# Altium footprint library Connectors_2mm.PcbLib: 81 footprints (part 3 of 6)
Each footprint in its own frame and in the unit in brackets; x right, y up, seen from the top. Pads: shape width x height; smd on the part's side, far side on the other; paste and mask are expansions set on the pad; w line width, h text height; cw(c..) or ccw(c..) is an arc to the next point about the centre after c.
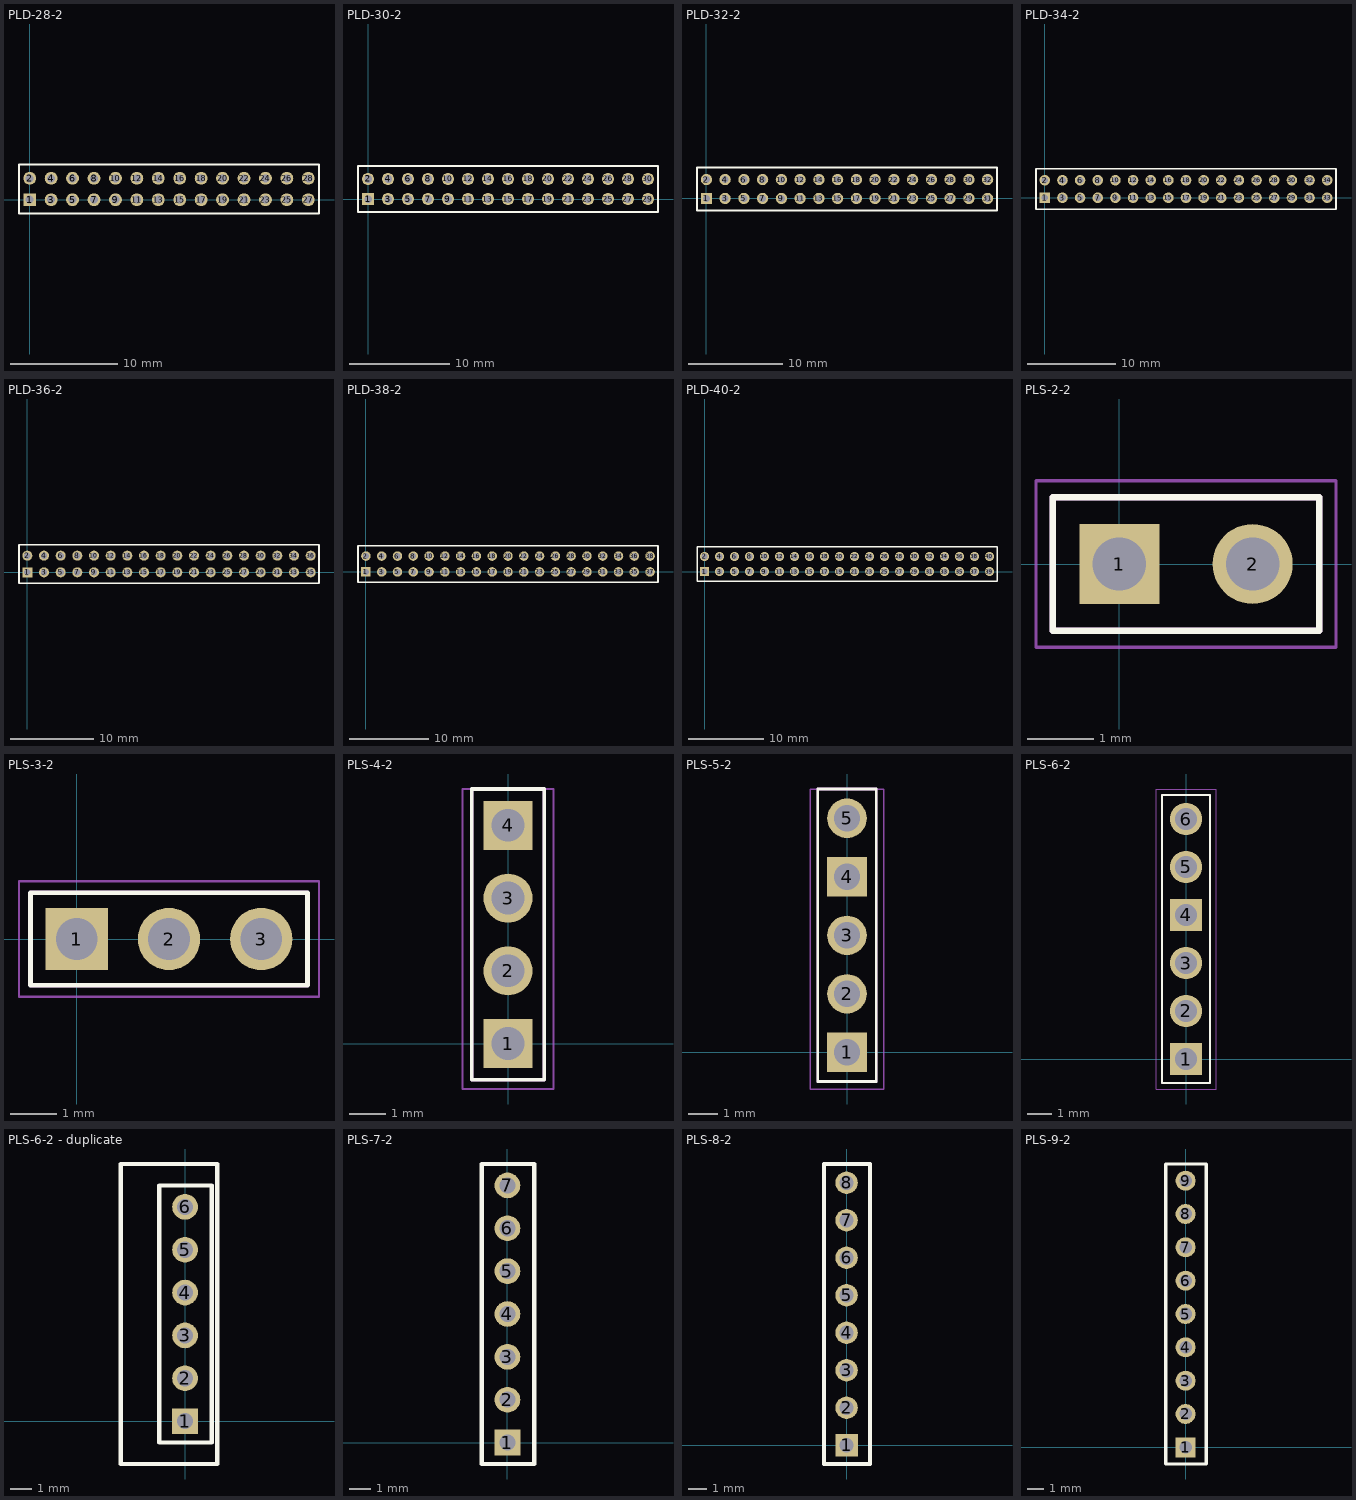
[diagram p2: the footprints below, top view; thin cyan lines are the x and y axes]

## PLD-28-2 [mm] "Connector; Header; 14x2 Position"
height 6
pads (28):
  rect 1.2x1.2 hole 0.75: 1(0,0)
  round 1.2 hole 0.75: 2(0,2) 3(2,0) 4(2,2) 5(4,0) 6(4,2) 7(6,0) 8(6,2) 9(8,0) 10(8,2) 11(10,0) 12(10,2) 13(12,0) 14(12,2) 15(14,0) 16(14,2) 17(16,0) 18(16,2) 19(18,0) 20(18,2) 21(20,0) 22(20,2) 23(22,0) 24(22,2) 25(24,0) 26(24,2) 27(26,0) 28(26,2)
Top Overlay:
  lines w0.2: -1,-1.3 27,-1.3 27,3.3 -1,3.3 -1,-1.3
3D body "pld-2mm.stp": height 5.5, standoff -2.5, extent -1,-1.3 1,3.3
3D body "pld-2mm.stp": height 5.5, standoff -2.5, extent 1,-1.3 3,3.3
3D body "pld-2mm.stp": height 5.5, standoff -2.5, extent 3,-1.3 5,3.3
3D body "pld-2mm.stp": height 5.5, standoff -2.5, extent 5,-1.3 7,3.3
3D body "pld-2mm.stp": height 5.5, standoff -2.5, extent 7,-1.3 9,3.3
3D body "pld-2mm.stp": height 5.5, standoff -2.5, extent 9,-1.3 11,3.3
3D body "pld-2mm.stp": height 5.5, standoff -2.5, extent 11,-1.3 13,3.3
3D body "pld-2mm.stp": height 5.5, standoff -2.5, extent 13,-1.3 15,3.3
3D body "pld-2mm.stp": height 5.5, standoff -2.5, extent 15,-1.3 17,3.3
3D body "pld-2mm.stp": height 5.5, standoff -2.5, extent 17,-1.3 19,3.3
3D body "pld-2mm.stp": height 5.5, standoff -2.5, extent 19,-1.3 21,3.3
3D body "pld-2mm.stp": height 5.5, standoff -2.5, extent 21,-1.3 23,3.3
3D body "pld-2mm.stp": height 5.5, standoff -2.5, extent 23,-1.3 25,3.3
3D body "pld-2mm.stp": height 5.5, standoff -2.5, extent 25,-1.3 27,3.3

## PLD-30-2 [mm] "Connector; Header; 15x2 Position"
height 6
pads (30):
  rect 1.2x1.2 hole 0.75: 1(0,0)
  round 1.2 hole 0.75: 2(0,2) 3(2,0) 4(2,2) 5(4,0) 6(4,2) 7(6,0) 8(6,2) 9(8,0) 10(8,2) 11(10,0) 12(10,2) 13(12,0) 14(12,2) 15(14,0) 16(14,2) 17(16,0) 18(16,2) 19(18,0) 20(18,2) 21(20,0) 22(20,2) 23(22,0) 24(22,2) 25(24,0) 26(24,2) 27(26,0) 28(26,2) 29(28,0) 30(28,2)
Top Overlay:
  lines w0.2: -1,-1.3 29,-1.3 29,3.3 -1,3.3 -1,-1.3
3D body "pld-2mm.stp": height 5.5, standoff -2.5, extent -1,-1.3 1,3.3
3D body "pld-2mm.stp": height 5.5, standoff -2.5, extent 1,-1.3 3,3.3
3D body "pld-2mm.stp": height 5.5, standoff -2.5, extent 3,-1.3 5,3.3
3D body "pld-2mm.stp": height 5.5, standoff -2.5, extent 5,-1.3 7,3.3
3D body "pld-2mm.stp": height 5.5, standoff -2.5, extent 7,-1.3 9,3.3
3D body "pld-2mm.stp": height 5.5, standoff -2.5, extent 9,-1.3 11,3.3
3D body "pld-2mm.stp": height 5.5, standoff -2.5, extent 11,-1.3 13,3.3
3D body "pld-2mm.stp": height 5.5, standoff -2.5, extent 13,-1.3 15,3.3
3D body "pld-2mm.stp": height 5.5, standoff -2.5, extent 15,-1.3 17,3.3
3D body "pld-2mm.stp": height 5.5, standoff -2.5, extent 17,-1.3 19,3.3
3D body "pld-2mm.stp": height 5.5, standoff -2.5, extent 19,-1.3 21,3.3
3D body "pld-2mm.stp": height 5.5, standoff -2.5, extent 21,-1.3 23,3.3
3D body "pld-2mm.stp": height 5.5, standoff -2.5, extent 23,-1.3 25,3.3
3D body "pld-2mm.stp": height 5.5, standoff -2.5, extent 25,-1.3 27,3.3
3D body "pld-2mm.stp": height 5.5, standoff -2.5, extent 27,-1.3 29,3.3

## PLD-32-2 [mm] "Connector; Header; 16x2 Position"
height 6
pads (32):
  rect 1.2x1.2 hole 0.75: 1(0,0)
  round 1.2 hole 0.75: 2(0,2) 3(2,0) 4(2,2) 5(4,0) 6(4,2) 7(6,0) 8(6,2) 9(8,0) 10(8,2) 11(10,0) 12(10,2) 13(12,0) 14(12,2) 15(14,0) 16(14,2) 17(16,0) 18(16,2) 19(18,0) 20(18,2) 21(20,0) 22(20,2) 23(22,0) 24(22,2) 25(24,0) 26(24,2) 27(26,0) 28(26,2) 29(28,0) 30(28,2) 31(30,0) 32(30,2)
Top Overlay:
  lines w0.2: -1,-1.3 31,-1.3 31,3.3 -1,3.3 -1,-1.3
3D body "pld-2mm.stp": height 5.5, standoff -2.5, extent -1,-1.3 1,3.3
3D body "pld-2mm.stp": height 5.5, standoff -2.5, extent 1,-1.3 3,3.3
3D body "pld-2mm.stp": height 5.5, standoff -2.5, extent 3,-1.3 5,3.3
3D body "pld-2mm.stp": height 5.5, standoff -2.5, extent 5,-1.3 7,3.3
3D body "pld-2mm.stp": height 5.5, standoff -2.5, extent 7,-1.3 9,3.3
3D body "pld-2mm.stp": height 5.5, standoff -2.5, extent 9,-1.3 11,3.3
3D body "pld-2mm.stp": height 5.5, standoff -2.5, extent 11,-1.3 13,3.3
3D body "pld-2mm.stp": height 5.5, standoff -2.5, extent 13,-1.3 15,3.3
3D body "pld-2mm.stp": height 5.5, standoff -2.5, extent 15,-1.3 17,3.3
3D body "pld-2mm.stp": height 5.5, standoff -2.5, extent 17,-1.3 19,3.3
3D body "pld-2mm.stp": height 5.5, standoff -2.5, extent 19,-1.3 21,3.3
3D body "pld-2mm.stp": height 5.5, standoff -2.5, extent 21,-1.3 23,3.3
3D body "pld-2mm.stp": height 5.5, standoff -2.5, extent 23,-1.3 25,3.3
3D body "pld-2mm.stp": height 5.5, standoff -2.5, extent 25,-1.3 27,3.3
3D body "pld-2mm.stp": height 5.5, standoff -2.5, extent 27,-1.3 29,3.3
3D body "pld-2mm.stp": height 5.5, standoff -2.5, extent 29,-1.3 31,3.3

## PLD-34-2 [mm] "Connector; Header; 17x2 Position"
height 6
pads (34):
  rect 1.2x1.2 hole 0.75: 1(0,0)
  round 1.2 hole 0.75: 2(0,2) 3(2,0) 4(2,2) 5(4,0) 6(4,2) 7(6,0) 8(6,2) 9(8,0) 10(8,2) 11(10,0) 12(10,2) 13(12,0) 14(12,2) 15(14,0) 16(14,2) 17(16,0) 18(16,2) 19(18,0) 20(18,2) 21(20,0) 22(20,2) 23(22,0) 24(22,2) 25(24,0) 26(24,2) 27(26,0) 28(26,2) 29(28,0) 30(28,2) 31(30,0) 32(30,2) 33(32,0) 34(32,2)
Top Overlay:
  lines w0.2: -1,-1.3 33,-1.3 33,3.3 -1,3.3 -1,-1.3
3D body "pld-2mm.stp": height 5.5, standoff -2.5, extent -1,-1.3 1,3.3
3D body "pld-2mm.stp": height 5.5, standoff -2.5, extent 1,-1.3 3,3.3
3D body "pld-2mm.stp": height 5.5, standoff -2.5, extent 3,-1.3 5,3.3
3D body "pld-2mm.stp": height 5.5, standoff -2.5, extent 5,-1.3 7,3.3
3D body "pld-2mm.stp": height 5.5, standoff -2.5, extent 7,-1.3 9,3.3
3D body "pld-2mm.stp": height 5.5, standoff -2.5, extent 9,-1.3 11,3.3
3D body "pld-2mm.stp": height 5.5, standoff -2.5, extent 11,-1.3 13,3.3
3D body "pld-2mm.stp": height 5.5, standoff -2.5, extent 13,-1.3 15,3.3
3D body "pld-2mm.stp": height 5.5, standoff -2.5, extent 15,-1.3 17,3.3
3D body "pld-2mm.stp": height 5.5, standoff -2.5, extent 17,-1.3 19,3.3
3D body "pld-2mm.stp": height 5.5, standoff -2.5, extent 19,-1.3 21,3.3
3D body "pld-2mm.stp": height 5.5, standoff -2.5, extent 21,-1.3 23,3.3
3D body "pld-2mm.stp": height 5.5, standoff -2.5, extent 23,-1.3 25,3.3
3D body "pld-2mm.stp": height 5.5, standoff -2.5, extent 25,-1.3 27,3.3
3D body "pld-2mm.stp": height 5.5, standoff -2.5, extent 27,-1.3 29,3.3
3D body "pld-2mm.stp": height 5.5, standoff -2.5, extent 29,-1.3 31,3.3
3D body "pld-2mm.stp": height 5.5, standoff -2.5, extent 31,-1.3 33,3.3

## PLD-36-2 [mm] "Connector; Header; 18x2 Position"
height 6
pads (36):
  rect 1.2x1.2 hole 0.75: 1(0,0)
  round 1.2 hole 0.75: 2(0,2) 3(2,0) 4(2,2) 5(4,0) 6(4,2) 7(6,0) 8(6,2) 9(8,0) 10(8,2) 11(10,0) 12(10,2) 13(12,0) 14(12,2) 15(14,0) 16(14,2) 17(16,0) 18(16,2) 19(18,0) 20(18,2) 21(20,0) 22(20,2) 23(22,0) 24(22,2) 25(24,0) 26(24,2) 27(26,0) 28(26,2) 29(28,0) 30(28,2) 31(30,0) 32(30,2) 33(32,0) 34(32,2) 35(34,0) 36(34,2)
Top Overlay:
  lines w0.2: -1,-1.3 35,-1.3 35,3.3 -1,3.3 -1,-1.3
3D body "pld-2mm.stp": height 5.5, standoff -2.5, extent -1,-1.3 1,3.3
3D body "pld-2mm.stp": height 5.5, standoff -2.5, extent 1,-1.3 3,3.3
3D body "pld-2mm.stp": height 5.5, standoff -2.5, extent 3,-1.3 5,3.3
3D body "pld-2mm.stp": height 5.5, standoff -2.5, extent 5,-1.3 7,3.3
3D body "pld-2mm.stp": height 5.5, standoff -2.5, extent 7,-1.3 9,3.3
3D body "pld-2mm.stp": height 5.5, standoff -2.5, extent 9,-1.3 11,3.3
3D body "pld-2mm.stp": height 5.5, standoff -2.5, extent 11,-1.3 13,3.3
3D body "pld-2mm.stp": height 5.5, standoff -2.5, extent 13,-1.3 15,3.3
3D body "pld-2mm.stp": height 5.5, standoff -2.5, extent 15,-1.3 17,3.3
3D body "pld-2mm.stp": height 5.5, standoff -2.5, extent 17,-1.3 19,3.3
3D body "pld-2mm.stp": height 5.5, standoff -2.5, extent 19,-1.3 21,3.3
3D body "pld-2mm.stp": height 5.5, standoff -2.5, extent 21,-1.3 23,3.3
3D body "pld-2mm.stp": height 5.5, standoff -2.5, extent 23,-1.3 25,3.3
3D body "pld-2mm.stp": height 5.5, standoff -2.5, extent 25,-1.3 27,3.3
3D body "pld-2mm.stp": height 5.5, standoff -2.5, extent 27,-1.3 29,3.3
3D body "pld-2mm.stp": height 5.5, standoff -2.5, extent 29,-1.3 31,3.3
3D body "pld-2mm.stp": height 5.5, standoff -2.5, extent 31,-1.3 33,3.3
3D body "pld-2mm.stp": height 5.5, standoff -2.5, extent 33,-1.3 35,3.3

## PLD-38-2 [mm] "Connector; Header; 19x2 Position"
height 6
pads (38):
  rect 1.2x1.2 hole 0.75: 1(0,0)
  round 1.2 hole 0.75: 2(0,2) 3(2,0) 4(2,2) 5(4,0) 6(4,2) 7(6,0) 8(6,2) 9(8,0) 10(8,2) 11(10,0) 12(10,2) 13(12,0) 14(12,2) 15(14,0) 16(14,2) 17(16,0) 18(16,2) 19(18,0) 20(18,2) 21(20,0) 22(20,2) 23(22,0) 24(22,2) 25(24,0) 26(24,2) 27(26,0) 28(26,2) 29(28,0) 30(28,2) 31(30,0) 32(30,2) 33(32,0) 34(32,2) 35(34,0) 36(34,2) 37(36,0) 38(36,2)
Top Overlay:
  lines w0.2: -1,-1.3 37,-1.3 37,3.3 -1,3.3 -1,-1.3
3D body "pld-2mm.stp": height 5.5, standoff -2.5, extent -1,-1.3 1,3.3
3D body "pld-2mm.stp": height 5.5, standoff -2.5, extent 1,-1.3 3,3.3
3D body "pld-2mm.stp": height 5.5, standoff -2.5, extent 3,-1.3 5,3.3
3D body "pld-2mm.stp": height 5.5, standoff -2.5, extent 5,-1.3 7,3.3
3D body "pld-2mm.stp": height 5.5, standoff -2.5, extent 7,-1.3 9,3.3
3D body "pld-2mm.stp": height 5.5, standoff -2.5, extent 9,-1.3 11,3.3
3D body "pld-2mm.stp": height 5.5, standoff -2.5, extent 11,-1.3 13,3.3
3D body "pld-2mm.stp": height 5.5, standoff -2.5, extent 13,-1.3 15,3.3
3D body "pld-2mm.stp": height 5.5, standoff -2.5, extent 15,-1.3 17,3.3
3D body "pld-2mm.stp": height 5.5, standoff -2.5, extent 17,-1.3 19,3.3
3D body "pld-2mm.stp": height 5.5, standoff -2.5, extent 19,-1.3 21,3.3
3D body "pld-2mm.stp": height 5.5, standoff -2.5, extent 21,-1.3 23,3.3
3D body "pld-2mm.stp": height 5.5, standoff -2.5, extent 23,-1.3 25,3.3
3D body "pld-2mm.stp": height 5.5, standoff -2.5, extent 25,-1.3 27,3.3
3D body "pld-2mm.stp": height 5.5, standoff -2.5, extent 27,-1.3 29,3.3
3D body "pld-2mm.stp": height 5.5, standoff -2.5, extent 29,-1.3 31,3.3
3D body "pld-2mm.stp": height 5.5, standoff -2.5, extent 31,-1.3 33,3.3
3D body "pld-2mm.stp": height 5.5, standoff -2.5, extent 33,-1.3 35,3.3
3D body "pld-2mm.stp": height 5.5, standoff -2.5, extent 35,-1.3 37,3.3

## PLD-40-2 [mm] "Connector; Header; 20x2 Position"
height 6
pads (40):
  rect 1.2x1.2 hole 0.75: 1(0,0)
  round 1.2 hole 0.75: 2(0,2) 3(2,0) 4(2,2) 5(4,0) 6(4,2) 7(6,0) 8(6,2) 9(8,0) 10(8,2) 11(10,0) 12(10,2) 13(12,0) 14(12,2) 15(14,0) 16(14,2) 17(16,0) 18(16,2) 19(18,0) 20(18,2) 21(20,0) 22(20,2) 23(22,0) 24(22,2) 25(24,0) 26(24,2) 27(26,0) 28(26,2) 29(28,0) 30(28,2) 31(30,0) 32(30,2) 33(32,0) 34(32,2) 35(34,0) 36(34,2) 37(36,0) 38(36,2) 39(38,0) 40(38,2)
Top Overlay:
  lines w0.2: -1,-1.3 39,-1.3 39,3.3 -1,3.3 -1,-1.3
3D body "pld-2mm.stp": height 5.5, standoff -2.5, extent -1,-1.3 1,3.3
3D body "pld-2mm.stp": height 5.5, standoff -2.5, extent 1,-1.3 3,3.3
3D body "pld-2mm.stp": height 5.5, standoff -2.5, extent 3,-1.3 5,3.3
3D body "pld-2mm.stp": height 5.5, standoff -2.5, extent 5,-1.3 7,3.3
3D body "pld-2mm.stp": height 5.5, standoff -2.5, extent 7,-1.3 9,3.3
3D body "pld-2mm.stp": height 5.5, standoff -2.5, extent 9,-1.3 11,3.3
3D body "pld-2mm.stp": height 5.5, standoff -2.5, extent 11,-1.3 13,3.3
3D body "pld-2mm.stp": height 5.5, standoff -2.5, extent 13,-1.3 15,3.3
3D body "pld-2mm.stp": height 5.5, standoff -2.5, extent 15,-1.3 17,3.3
3D body "pld-2mm.stp": height 5.5, standoff -2.5, extent 17,-1.3 19,3.3
3D body "pld-2mm.stp": height 5.5, standoff -2.5, extent 19,-1.3 21,3.3
3D body "pld-2mm.stp": height 5.5, standoff -2.5, extent 21,-1.3 23,3.3
3D body "pld-2mm.stp": height 5.5, standoff -2.5, extent 23,-1.3 25,3.3
3D body "pld-2mm.stp": height 5.5, standoff -2.5, extent 25,-1.3 27,3.3
3D body "pld-2mm.stp": height 5.5, standoff -2.5, extent 27,-1.3 29,3.3
3D body "pld-2mm.stp": height 5.5, standoff -2.5, extent 29,-1.3 31,3.3
3D body "pld-2mm.stp": height 5.5, standoff -2.5, extent 31,-1.3 33,3.3
3D body "pld-2mm.stp": height 5.5, standoff -2.5, extent 33,-1.3 35,3.3
3D body "pld-2mm.stp": height 5.5, standoff -2.5, extent 35,-1.3 37,3.3
3D body "pld-2mm.stp": height 5.5, standoff -2.5, extent 37,-1.3 39,3.3

## PLS-2-2 [mm]
pads (2):
  rect 1.2x1.2 hole 0.8: 1(0,0)
  round 1.2 hole 0.8: 2(2,0)
Top Overlay:
  lines w0.1: -1,-1 3,-1 3,1 -1,1 -1,-1
Mechanical 13:
  lines w0.1: -1,-1 3,-1 3,1 -1,1 -1,-1
Mechanical 15:
  lines w0.05: -1.25,-1.25 3.25,-1.25 3.25,1.25 -1.25,1.25 -1.25,-1.25
3D body "M22-2510205.stp": height 5.25, standoff -2.55, extent -1,-1 3,1

## PLS-3-2 [mm]
pads (3):
  rect 1.35x1.35 hole 0.9: 1(0,0)
  round 1.35 hole 0.9: 2(2,0) 3(4,0)
Top Overlay:
  lines w0.1: -1,-1 5,-1 5,1 -1,1 -1,-1
Mechanical 13:
  lines w0.1: -1,-1 5,-1 5,1 -1,1 -1,-1
Mechanical 15:
  lines w0.05: -1.25,-1.25 5.25,-1.25 5.25,1.25 -1.25,1.25 -1.25,-1.25
3D body "2PH1-03-UA.stp": height 5.9, standoff -2.8, extent -1,-1 5,1

## PLS-4-2 [mm] "Connector; Header; 1x4 Position"
height 6
pads (4):
  rect 1.35x1.35 hole 0.9: 1(0,0) 4(0,6)
  round 1.35 hole 0.9: 2(0,2) 3(0,4)
Top Overlay:
  lines w0.1: -1,-1 -1,5 -1,7 1,7 1,5 1,-1 -1,-1
Mechanical 13:
  lines w0.1: -1,-1 -1,5 -1,7 1,7 1,5 1,-1 -1,-1
Mechanical 15:
  lines w0.05: -1.25,4.75 -1.25,7 1.25,7 1.25,4.75 ; -1.25,5.25 -1.25,-1.25 1.25,-1.25 1.25,5.25
3D body "2PH1-03-UA.stp": height 5.9, standoff -2.8, extent -1,1 1,7
3D body "2PH1-03-UA.stp": height 5.9, standoff -2.8, extent -1,-1 1,5

## PLS-5-2 [mm] "Connector; Header; 1x5 Position"
height 6
pads (5):
  rect 1.35x1.35 hole 0.9: 1(0,0) 4(0,6)
  round 1.35 hole 0.9: 2(0,2) 3(0,4) 5(0,8)
Top Overlay:
  lines w0.1: -1,-1 -1,5 -1,9 1,9 1,5 1,-1 -1,-1
Mechanical 13:
  lines w0.1: -1,-1 -1,5 -1,9 1,9 1,5 1,-1 -1,-1
Mechanical 15:
  lines w0.05: -1.25,4.75 -1.25,9 1.25,9 1.25,4.75 ; -1.25,5.25 -1.25,-1.25 1.25,-1.25 1.25,5.25
3D body "2PH1-03-UA.stp": height 5.9, standoff -2.8, extent -1,3 1,9
3D body "2PH1-03-UA.stp": height 5.9, standoff -2.8, extent -1,-1 1,5

## PLS-6-2 [mm] "Connector; Header; 1x6 Position"
height 6
pads (6):
  rect 1.35x1.35 hole 0.9: 1(0,0) 4(0,6)
  round 1.35 hole 0.9: 2(0,2) 3(0,4) 5(0,8) 6(0,10)
Top Overlay:
  lines w0.1: -1,-1 1,-1 1,5 1,11 -1,11 -1,5 -1,-1
Mechanical 13:
  lines w0.1: -1,-1 1,-1 1,5 1,11 -1,11 -1,5 -1,-1
Mechanical 15:
  lines w0.05: -1.25,4.75 -1.25,11.25 1.25,11.25 1.25,4.75 ; -1.25,5.25 -1.25,-1.25 1.25,-1.25 1.25,5.25
3D body "2PH1-03-UA.stp": height 5.9, standoff -2.8, extent -1,-1 1,5
3D body "2PH1-03-UA.stp": height 5.9, standoff -2.8, extent -1,5 1,11

## PLS-6-2 - duplicate [mm] "Connector; Header; 1x6 Position"
height 6
pads (6):
  rect 1.2x1.2 hole 0.75: 1(0,0)
  round 1.2 hole 0.75: 2(0,2) 3(0,4) 4(0,6) 5(0,8)
  round 1.2 hole 0.75 unplated: 6(0,10)
Top Overlay:
  lines w0.2: -3,-2 1.5,-2 1.5,12 -3,12 -3,-2 ; -1.2,-1 1.25,-1 1.25,11 -1.2,11 -1.2,-1
3D body: height 6, standoff 0.1, extent -3,-2 -2.5,12
3D body: height 6, standoff 0.1, extent -2.5,11.5 1,12
3D body: height 6, standoff 0.1, extent -2.5,-2 1,-1.5
3D body: height 6, standoff 0.1, extent 1,-2 1.5,12
3D body: height 0.25, standoff -5.2, extent -3,-2 -3,12
3D body: height 0.3, standoff 0.1, extent -3,-2 1.5,12
3D body "pls-2mm.stp": height 5.5, standoff -2.5, extent -1.2,7 1.2,9
3D body "pls-2mm.stp": height 5.5, standoff -2.5, extent -1.2,5 1.2,7
3D body "pls-2mm.stp": height 5.5, standoff -2.5, extent -1.2,3 1.2,5
3D body "pls-2mm.stp": height 5.5, standoff -2.5, extent -1.2,1 1.2,3
3D body "pls-2mm.stp": height 5.5, standoff -2.5, extent -1.2,-1 1.2,1
3D body "pls-2mm.stp": height 5.5, standoff -2.5, extent -1.2,9 1.2,11

## PLS-7-2 [mm] "Connector; Header; 1x7 Position"
height 6
pads (7):
  rect 1.2x1.2 hole 0.75: 1(0,0)
  round 1.2 hole 0.75: 2(0,2) 3(0,4) 4(0,6) 5(0,8)
  round 1.2 hole 0.75 unplated: 6(0,10) 7(0,12)
Top Overlay:
  lines w0.2: -1.2,-1 -1.2,13 1.25,13 1.25,-1 -1.2,-1
3D body "pls-2mm.stp": height 5.5, standoff -2.5, extent -1.2,11 1.2,13
3D body "pls-2mm.stp": height 5.5, standoff -2.5, extent -1.2,9 1.2,11
3D body "pls-2mm.stp": height 5.5, standoff -2.5, extent -1.2,-1 1.2,1
3D body "pls-2mm.stp": height 5.5, standoff -2.5, extent -1.2,1 1.2,3
3D body "pls-2mm.stp": height 5.5, standoff -2.5, extent -1.2,3 1.2,5
3D body "pls-2mm.stp": height 5.5, standoff -2.5, extent -1.2,5 1.2,7
3D body "pls-2mm.stp": height 5.5, standoff -2.5, extent -1.2,7 1.2,9

## PLS-8-2 [mm] "Connector; Header; 1x8 Position"
height 6
pads (8):
  rect 1.2x1.2 hole 0.75: 1(0,0)
  round 1.2 hole 0.75: 2(0,2) 3(0,4) 4(0,6) 5(0,8)
  round 1.2 hole 0.75 unplated: 6(0,10) 7(0,12) 8(0,14)
Top Overlay:
  lines w0.2: -1.2,-1 -1.2,15 1.25,15 1.25,-1 -1.2,-1
3D body "pls-2mm.stp": height 5.5, standoff -2.5, extent -1.2,13 1.2,15
3D body "pls-2mm.stp": height 5.5, standoff -2.5, extent -1.2,11 1.2,13
3D body "pls-2mm.stp": height 5.5, standoff -2.5, extent -1.2,9 1.2,11
3D body "pls-2mm.stp": height 5.5, standoff -2.5, extent -1.2,-1 1.2,1
3D body "pls-2mm.stp": height 5.5, standoff -2.5, extent -1.2,1 1.2,3
3D body "pls-2mm.stp": height 5.5, standoff -2.5, extent -1.2,3 1.2,5
3D body "pls-2mm.stp": height 5.5, standoff -2.5, extent -1.2,5 1.2,7
3D body "pls-2mm.stp": height 5.5, standoff -2.5, extent -1.2,7 1.2,9

## PLS-9-2 [mm] "Connector; Header; 1x9 Position"
height 6
pads (9):
  rect 1.2x1.2 hole 0.75: 1(0,0)
  round 1.2 hole 0.75: 2(0,2) 3(0,4) 4(0,6) 5(0,8)
  round 1.2 hole 0.75 unplated: 6(0,10) 7(0,12) 8(0,14) 9(0,16)
Top Overlay:
  lines w0.2: -1.2,-1 -1.2,17 1.25,17 1.25,-1 -1.2,-1
3D body "pls-2mm.stp": height 5.5, standoff -2.5, extent -1.2,15 1.2,17
3D body "pls-2mm.stp": height 5.5, standoff -2.5, extent -1.2,13 1.2,15
3D body "pls-2mm.stp": height 5.5, standoff -2.5, extent -1.2,11 1.2,13
3D body "pls-2mm.stp": height 5.5, standoff -2.5, extent -1.2,9 1.2,11
3D body "pls-2mm.stp": height 5.5, standoff -2.5, extent -1.2,-1 1.2,1
3D body "pls-2mm.stp": height 5.5, standoff -2.5, extent -1.2,1 1.2,3
3D body "pls-2mm.stp": height 5.5, standoff -2.5, extent -1.2,3 1.2,5
3D body "pls-2mm.stp": height 5.5, standoff -2.5, extent -1.2,5 1.2,7
3D body "pls-2mm.stp": height 5.5, standoff -2.5, extent -1.2,7 1.2,9